# Altium schematic symbol library ISZ0702NLS.Schlib: 1 symbol
Pins are listed as number, name and electrical type; pins without a type are passive.

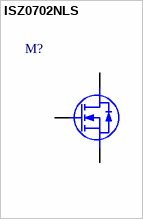
[diagram p0: symbol ISZ0702NLS]

## ISZ0702NLS
designator M?
60V 86A N-Channel
pins: 1 S, 2 G, 3 D